# EAGLE library part TS30013 (library ledinlinesupply)
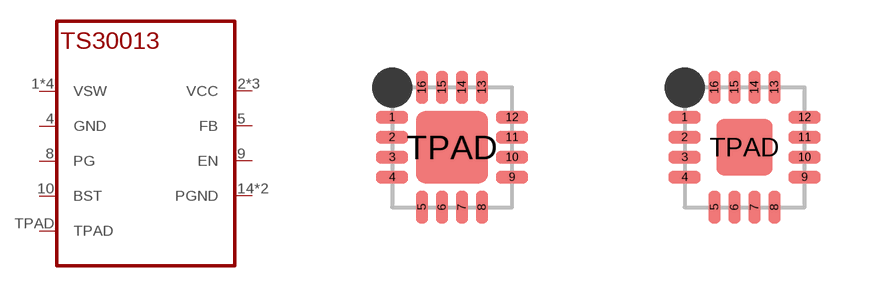
[diagram p0: symbol with the pads of QFN16-3X3; footprints QFN16-3X3, QFN16-3X3-DIY]

Designator prefix -

## TS30013QFN16-3X3  [QFN16-3X3]
1  VSW
2  VCC
3  VCC
4  GND
5  FB
8  PG
9  EN
10  BST
11  VCC
12  VSW
13  VSW
14  PGND
15  PGND
16  VSW
TPAD  TPAD

## TS30013QFN16-3X3-DIY  [QFN16-3X3-DIY]
Pads as for QFN16-3X3

## Footprint QFN16-3X3 (pad centres in mm)
Quad flat nolead (QFN) 16 pin package with center ground, 3mm chip
smd 0.8 x 0.3: 1 -1.5,0.75; 2 -1.5,0.25; 3 -1.5,-0.25; 4 -1.5,-0.75; 9 1.5,-0.75; 10 1.5,-0.25; 11 1.5,0.25; 12 1.5,0.75
smd 0.3 x 0.8: 5 -0.75,-1.5; 6 -0.25,-1.5; 7 0.25,-1.5; 8 0.75,-1.5; 13 0.75,1.5; 14 0.25,1.5; 15 -0.25,1.5; 16 -0.75,1.5
smd 1.8 x 1.8: TPAD 0,0

## Footprint QFN16-3X3-DIY (pad centres in mm)
Quad flat nolead (QFN) 16 pin package with center ground, 3mm chip
smd 0.8 x 0.3: 1 -1.5,0.75; 2 -1.5,0.25; 3 -1.5,-0.25; 4 -1.5,-0.75; 9 1.5,-0.75; 10 1.5,-0.25; 11 1.5,0.25; 12 1.5,0.75
smd 0.3 x 0.8: 5 -0.75,-1.5; 6 -0.25,-1.5; 7 0.25,-1.5; 8 0.75,-1.5; 13 0.75,1.5; 14 0.25,1.5; 15 -0.25,1.5; 16 -0.75,1.5
smd 1.4 x 1.4: TPAD 0,0